# EAGLE library part IC_ADNS2051 (library akita)
Agilent ADNS2051, optical mouse sensor
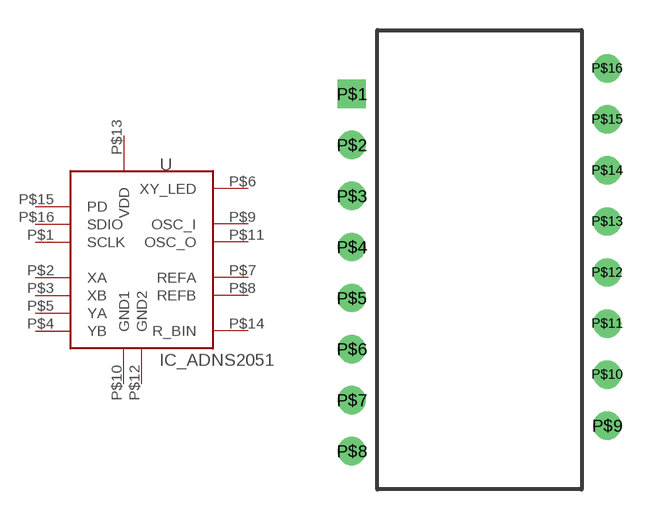
[diagram p168: symbol with the pads of ADNS2051; footprint ADNS2051]

Designator prefix U

## IC_ADNS2051  [ADNS2051]
P$1  SCLK
P$2  XA
P$3  XB
P$4  YB
P$5  YA
P$6  XY_LED
P$7  REFA
P$8  REFB
P$9  OSC_I
P$10  GND1
P$11  OSC_O
P$12  GND2
P$13  VDD
P$14  R_BIN
P$15  PD
P$16  SDIO

## Footprint ADNS2051 (pad centres in mm)
Agilent ADNS2051, optical mouse sensor
drill 0.9 square: P$1 -6.35,8.89
drill 0.9: P$2 -6.35,6.35; P$3 -6.35,3.81; P$4 -6.35,1.27; P$5 -6.35,-1.27; P$6 -6.35,-3.81; P$7 -6.35,-6.35; P$8 -6.35,-8.89; P$9 6.35,-7.62; P$10 6.35,-5.08; P$11 6.35,-2.54; P$12 6.35,0; P$13 6.35,2.54; P$14 6.35,5.08; P$15 6.35,7.62; P$16 6.35,10.16